# Altium schematic symbol library STM32L011F3U3TR.SchLib: 1 symbol
Pins are listed as number, name and electrical type; pins without a type are passive.

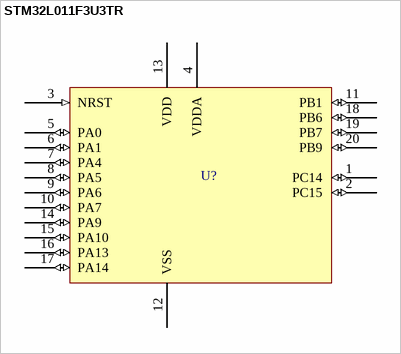
[diagram p0: symbol STM32L011F3U3TR]

## STM32L011F3U3TR
designator U?  (value not drawn)
Ultra-low-power ARM Cortex-M0+ MCU with 8-Kbytes Flash, 32 MHz CPU
pins: 1 PC14 (io), 2 PC15 (io), 3 NRST (in), 4 VDDA (power), 5 PA0 (io), 6 PA1 (io), 7 PA4 (io), 8 PA5 (io), 9 PA6 (io), 10 PA7 (io), 11 PB1 (io), 12 VSS (power), 13 VDD (power), 14 PA9 (io), 15 PA10 (io), 16 PA13 (io), 17 PA14 (io), 18 PB6 (io), 19 PB7 (io), 20 PB9 (io)